# EAGLE library part RJ11V (library RJ11V)
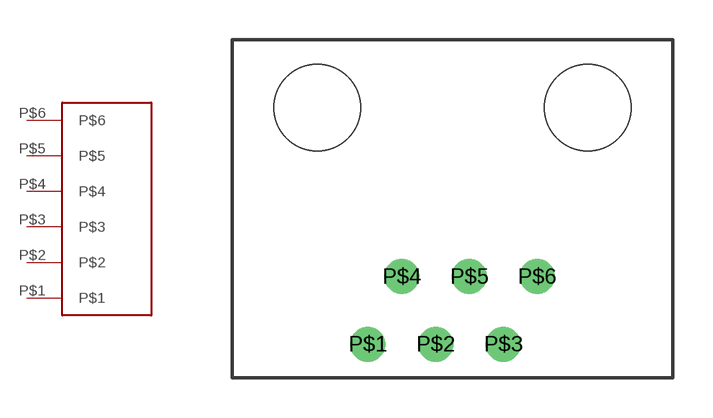
[diagram p0: symbol with the pads of RJ11V; footprint RJ11V]

Designator prefix -

## RJ11V  [RJ11V]
P$1  P$1
P$2  P$2
P$3  P$3
P$4  P$4
P$5  P$5
P$6  P$6

## Footprint RJ11V (pad centres in mm)
drill 0.8: P$1 5.08,1.27; P$2 7.62,1.27; P$3 10.16,1.27; P$4 6.35,3.81; P$5 8.89,3.81; P$6 11.43,3.81
hole 3.25 at 3.175,10.16
hole 3.25 at 13.335,10.16